# EAGLE library part ADUM1311 (library Public)
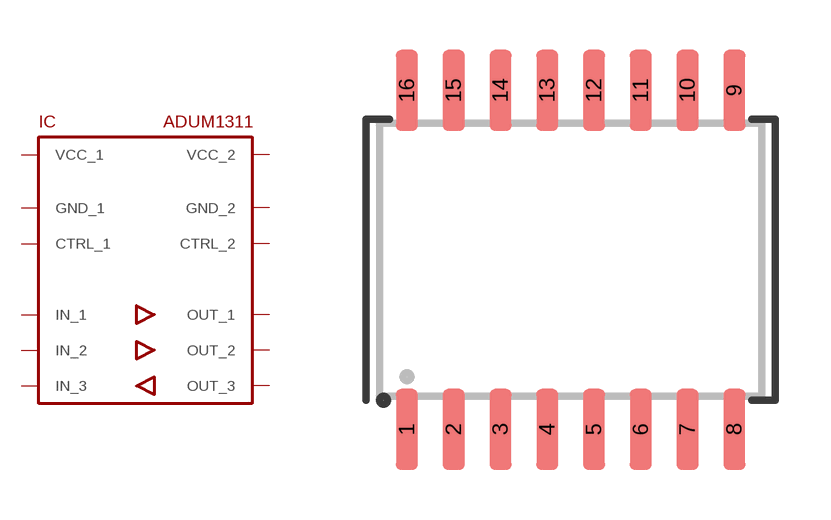
[diagram p51: symbol with the pads of SO16W; footprint SO16W]

Designator prefix IC

## ADUM1311  [SO16W]
1  VCC_1
2  GND_1
3  IN_1
4  IN_2
5  OUT_3
7  CTRL_1
8  GND_1
9  GND_2
10  CTRL_2
12  IN_3
13  OUT_2
14  OUT_1
15  GND_2
16  VCC_2

## Footprint SO16W (pad centres in mm)
smd 0.6 x 2.2: 1 -4.445,-4.6; 2 -3.175,-4.6; 3 -1.905,-4.6; 4 -0.635,-4.6; 5 0.635,-4.6; 6 1.905,-4.6; 7 3.175,-4.6; 8 4.445,-4.6; 9 4.445,4.6; 10 3.175,4.6; 11 1.905,4.6; 12 0.635,4.6; 13 -0.635,4.6; 14 -1.905,4.6; 15 -3.175,4.6; 16 -4.445,4.6